# EAGLE library part NOII4SM6600A_MODULE (library MODULES)
A module for the NOII4SM6600A monochrome image sensor.
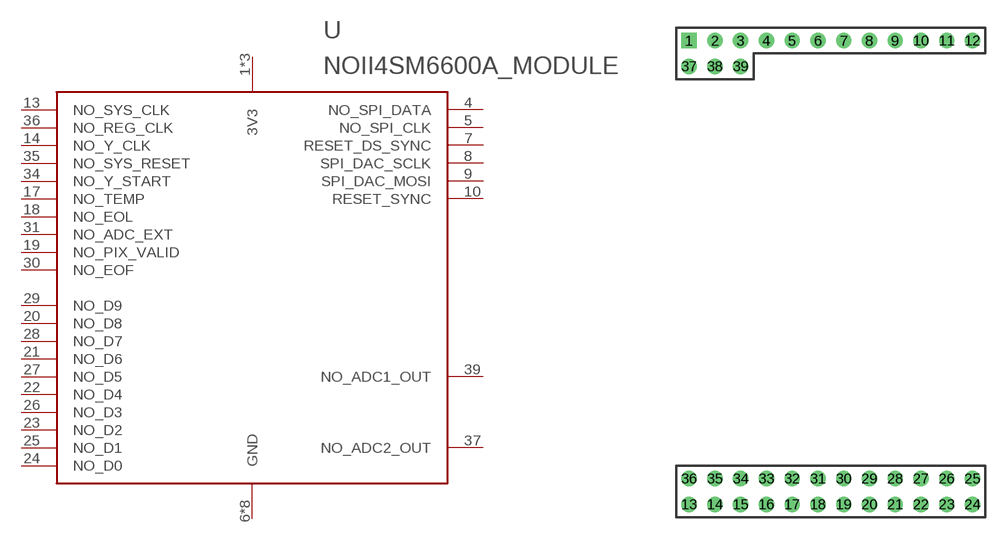
[diagram p3: symbol with the pads of IBIS4_MODULE; footprint IBIS4_MODULE]

Designator prefix U

## NOII4SM6600A_MODULE  [IBIS4_MODULE]
1  3V3
2  3V3
3  3V3
4  NO_SPI_DATA
5  NO_SPI_CLK
6  GND
7  RESET_DS_SYNC
8  SPI_DAC_SCLK
9  SPI_DAC_MOSI
10  RESET_SYNC
11  GND
12  GND
13  NO_SYS_CLK
14  NO_Y_CLK
15  GND
16  GND
17  NO_TEMP
18  NO_EOL
19  NO_PIX_VALID
20  NO_D8
21  NO_D6
22  NO_D4
23  NO_D2
24  NO_D0
25  NO_D1
26  NO_D3
27  NO_D5
28  NO_D7
29  NO_D9
30  NO_EOF
31  NO_ADC_EXT
32  GND
33  GND
34  NO_Y_START
35  NO_SYS_RESET
36  NO_REG_CLK
37  NO_ADC2_OUT
38  GND
39  NO_ADC1_OUT

## Footprint IBIS4_MODULE (pad centres in mm)
drill 1 pad 1.5 square: 1 -13.97,22.86
drill 1 pad 1.5: 2 -11.43,22.86; 3 -8.89,22.86; 4 -6.35,22.86; 5 -3.81,22.86; 6 -1.27,22.86; 7 1.27,22.86; 8 3.81,22.86; 9 6.35,22.86; 10 8.89,22.86; 11 11.43,22.86; 12 13.97,22.86; 13 -13.97,-22.86; 14 -11.43,-22.86; 15 -8.89,-22.86; 16 -6.35,-22.86; 17 -3.81,-22.86; 18 -1.27,-22.86; 19 1.27,-22.86; 20 3.81,-22.86; 21 6.35,-22.86; 22 8.89,-22.86; 23 11.43,-22.86; 24 13.97,-22.86; 25 13.97,-20.32; 26 11.43,-20.32; 27 8.89,-20.32; 28 6.35,-20.32; 29 3.81,-20.32; 30 1.27,-20.32; 31 -1.27,-20.32; 32 -3.81,-20.32; 33 -6.35,-20.32; 34 -8.89,-20.32; 35 -11.43,-20.32; 36 -13.97,-20.32; 37 -13.97,20.32; 38 -11.43,20.32; 39 -8.89,20.32